# Altium footprint library charger_LT3652.PcbLib: 30 footprints (part 2 of 2)
Each footprint in its own frame and in the unit in brackets; x right, y up, seen from the top. Pads: shape width x height; smd on the part's side, far side on the other; paste and mask are expansions set on the pad; w line width, h text height; cw(c..) or ccw(c..) is an arc to the next point about the centre after c.
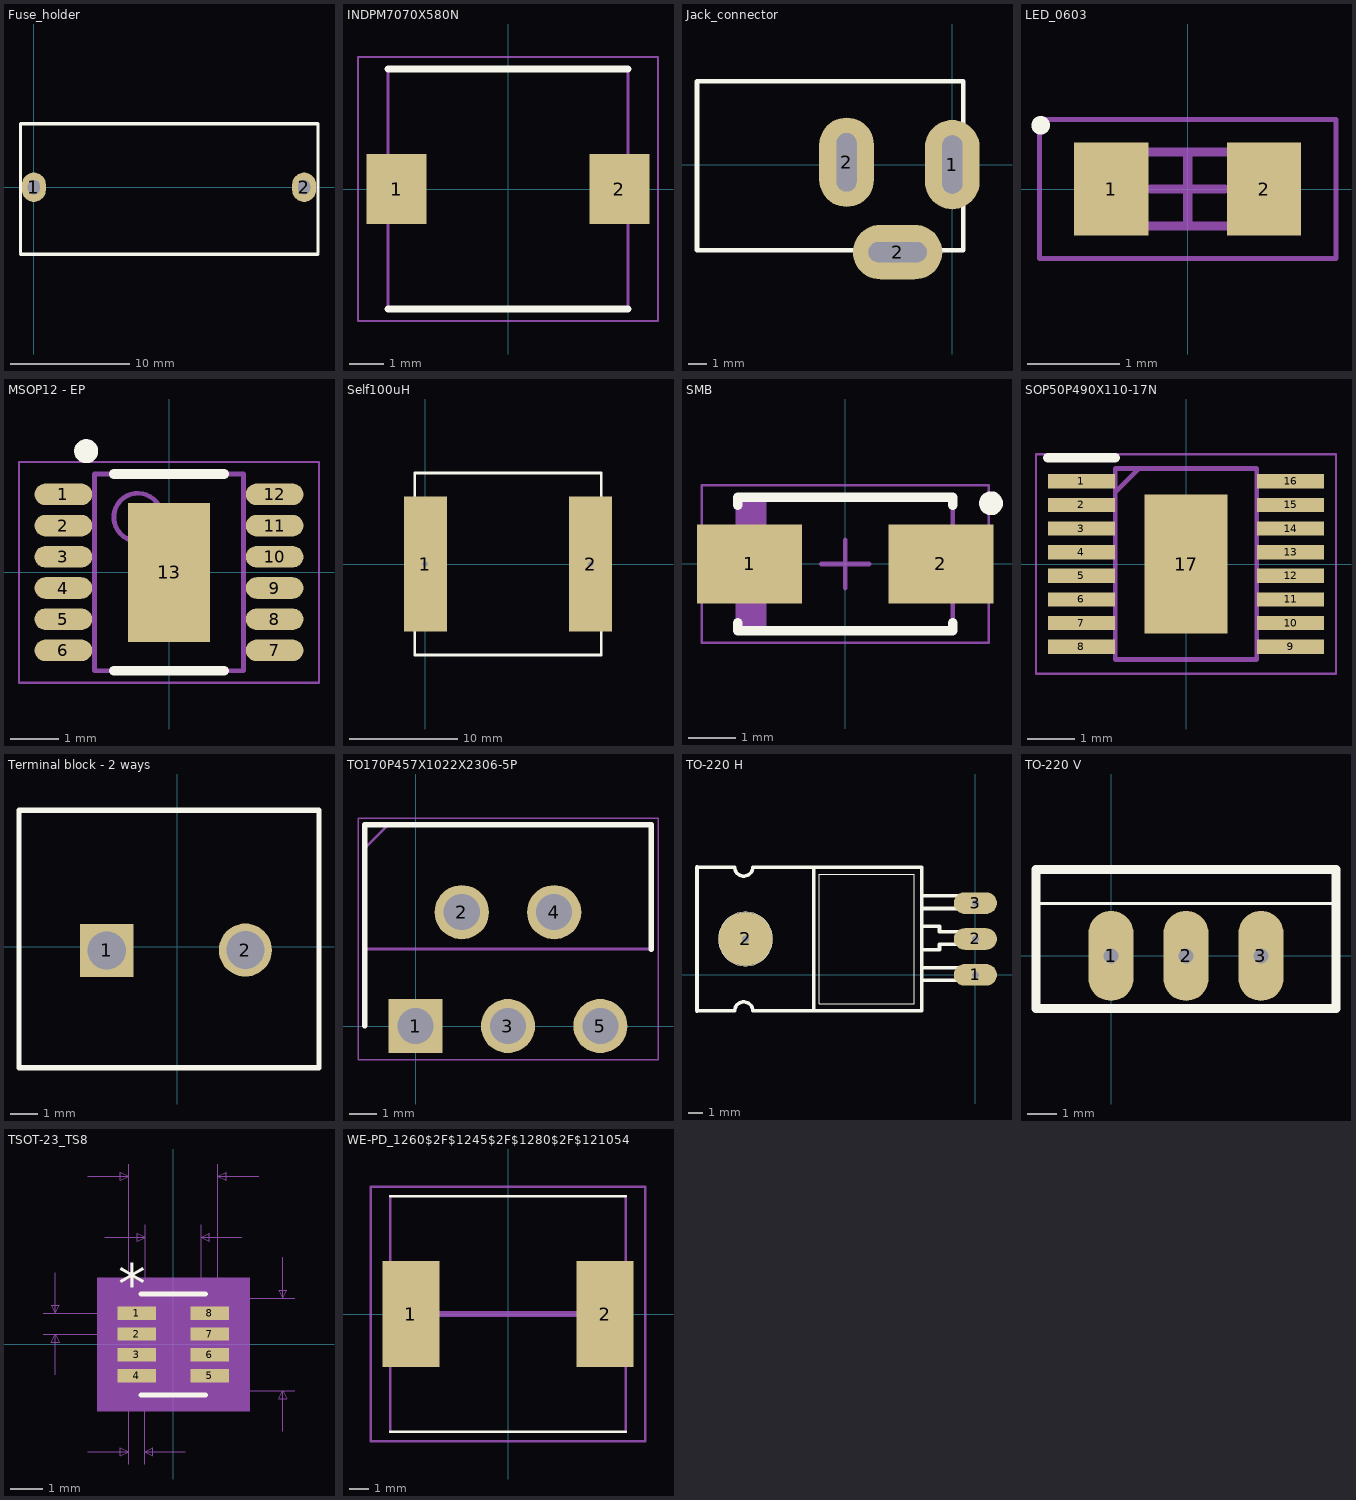
[diagram p1: the footprints below, top view; thin cyan lines are the x and y axes]

## Fuse_holder [mm]
pads (2):
  oval 2x2.5 hole 1 slot 1.2 at 90 deg: 1(0,0) 2(22.7,0)
Top Overlay:
  lines w0.254: -1.124,-5.627 23.876,-5.627 ; -1.124,-5.5 -1.124,5.334 23.876,5.334 23.876,-5.5

## INDPM7070X580N [mm]
pads (2):
  rect 1.75x2.05 smd: 1(-3.25,0) 2(3.25,0)
Top Overlay:
  lines w0.2: -3.5,-3.5 3.5,-3.5 ; -3.5,3.5 3.5,3.5
Mechanical 15:
  lines w0.1: -3.5,-3.5 3.5,-3.5 3.5,3.5 -3.5,3.5 -3.5,-3.5
Mechanical 20:
  lines w0.05: -4.375,-3.85 4.375,-3.85 4.375,3.85 -4.375,3.85 -4.375,-3.85

## Jack_connector [mm]
pads (3):
  oval 3x4.9 hole 1.1 slot 3.2 at 90 deg: 1(0,0) 2(-5.8,0.127)
  oval 4.9x3 hole 1.1 slot 3.2 at 0 deg: 2(-3,-4.8)
Top Overlay:
  lines w0.254: -14,-4.699 0.6,-4.699 0.6,4.572 -14,4.572 -14,-4.699

## LED_0603 [mm] "LED diode 0603"
pads (2):
  rect 0.8x1 smd: 1(-0.825,0) 2(0.825,0)
Top Overlay:
  circle w0.1: c-1.587,0.687 r0.05
Mechanical 13:
  lines w0.1: -0.9,-0.4 0.9,-0.4 0.9,0.4 -0.9,0.4 -0.9,-0.4
Mechanical 15:
  lines w0.05: -1.6,-0.75 1.6,-0.75 1.6,0.75 -1.6,0.75 -1.6,-0.75
  lines w0.1: -0.4,0 0.4,0 ; 0,-0.4 0,0.4
3D body "User Library-LED_0603_B.STEP": height 0.6, standoff 0, extent -0.8,-0.4 0.8,0.4

## MSOP12 - EP [mm] "MSOP, 12-Leads, Body 4,00x3,00mm, Pitch 0,65mm, Thermal Pad 2,90x1,70mm, IPC Medium Density"
height 1.1
pads (13):
  oval 1.2x0.45 smd: 1(-2.2,1.625) 2(-2.2,0.975) 3(-2.2,0.325) 4(-2.2,-0.325) 5(-2.2,-0.975) 6(-2.2,-1.625) 7(2.2,-1.625) 8(2.2,-0.975) 9(2.2,-0.325) 10(2.2,0.325) 11(2.2,0.975) 12(2.2,1.625)
  rect 1.7x2.9 smd: 13(0,0)
Top Overlay:
  circle w0.25: c-1.725,2.525 r0.125
  lines w0.2: -1.15,-2.05 1.15,-2.05 ; -1.15,2.05 1.15,2.05
Mechanical 13:
  circle w0.1: c-0.65,1.15 r0.5
  lines w0.1: -1.55,-2.05 1.55,-2.05 1.55,2.05 -1.55,2.05 -1.55,-2.05
Mechanical 15:
  lines w0.05: -3.125,-2.3 3.125,-2.3 3.125,2.3 -3.125,2.3 -3.125,-2.3
  lines w0.1: -0.5,0 0.5,0 ; 0,-0.5 0,0.5
3D body "User Library-msop-12.STEP": height 1.1, standoff 0, extent -2.45,-2.02 2.45,2.02

## Self100uH [mm] "Inductance 100uH 5,3A"
pads (2):
  rect 4x12.5 hole 0.5: 1(0,0) 2(15.35,0)
Top Overlay:
  lines w0.254: -0.975,-8.45 -0.975,8.45 16.325,8.45 16.325,-8.45 -0.975,-8.45

## SMB [mm] "SMB diode SS14"
height 2.3
pads (2):
  rect 2.2x1.65 smd: 1(-2,0) 2(2,0)
Top Overlay:
  circle w0.25: c3.048,1.27 r0.125
  lines w0.2: -2.25,-1.225 -2.25,-1.4 2.25,-1.4 2.25,-1.225 ; -2.25,1.225 -2.25,1.4 2.25,1.4 2.25,1.225
Mechanical 13:
  rectangle: -2.25,-1.395 -1.645,1.395
  lines w0.1: -2.25,-1.395 2.25,-1.395 2.25,1.395 -2.25,1.395 -2.25,-1.395
Mechanical 15:
  lines w0.05: -3,-1.65 3,-1.65 3,1.65 -3,1.65 -3,-1.65
  lines w0.1: -0.5,0 0.5,0 ; 0,-0.5 0,0.5
3D body: height 2.3, standoff 0, extent -2.25,-1.395 2.25,1.395

## SOP50P490X110-17N [mm]
pads (17):
  rect 1.425x0.3 smd: 1(-2.212,1.75) 2(-2.212,1.25) 3(-2.212,0.75) 4(-2.212,0.25) 5(-2.212,-0.25) 6(-2.212,-0.75) 7(-2.212,-1.25) 8(-2.212,-1.75) 9(2.212,-1.75) 10(2.212,-1.25) 11(2.212,-0.75) 12(2.212,-0.25) 13(2.212,0.25) 14(2.212,0.75) 15(2.212,1.25) 16(2.212,1.75)
  rect 1.753x2.947 smd: 17(0,0)
Top Overlay:
  lines w0.2: -2.925,2.25 -1.5,2.25
Mechanical 13:
  lines w0.1: -1.5,1.52 -1,2.02 ; -1.5,-2.02 1.5,-2.02 1.5,2.02 -1.5,2.02 -1.5,-2.02
Mechanical 15:
  lines w0.05: -3.175,-2.32 3.175,-2.32 3.175,2.32 -3.175,2.32 -3.175,-2.32
3D body "LTC3260EMSE#PBF.stp": height 1.1, standoff 0, extent -2.45,-2.02 2.45,2.02

## Terminal block - 2 ways [mm]
pads (2):
  rect 1.95x1.95 / inner round 1.95 / far side rect 1.95x1.95 hole 1.4: 1(-2.58,-0.13)
  round 1.95 hole 1.4: 2(2.5,-0.12)
Top Overlay:
  lines w0.2: -5.8,-4.427 -5.8,0.085 -5.8,5 5.2,5 5.2,-4.427 -2.54,-4.427 -5.8,-4.427
Mechanical 29:
  lines w0.1: -5.8,-4.4 -5.8,5 5.2,5 5.2,-4.4 -5.8,-4.4
3D body "1935161.stp": height 12.4, standoff -2.5, extent -5.59,-4.152 4.98,4.848

## TO170P457X1022X2306-5P [mm]
pads (5):
  rect 1.995x1.995 / inner round 1.995 / far side rect 1.995x1.995 hole 1.33: 1(0,0)
  round 1.995 hole 1.33: 2(1.7,4.191) 3(3.4,0) 4(5.1,4.191) 5(6.8,0)
Top Overlay:
  lines w0.2: -1.87,0 -1.87,7.404 8.67,7.404 8.67,2.832
Mechanical 15:
  lines w0.1: -1.87,6.554 -1.02,7.404 ; -1.87,2.832 8.671,2.832 8.671,7.404 -1.87,7.404 -1.87,2.832
Mechanical 20:
  lines w0.05: -2.12,-1.248 8.921,-1.248 8.921,7.654 -2.12,7.654 -2.12,-1.248

## TO-220 H [mil] "TO-220 horizontal"
height 185
pads (4):
  oval 120x60 hole 19.68: 1(0,0) 2(0,100) 3(0,200)
  round 150 hole 19.68: 2(-640,100)
Mid-Layer 1:
  lines w50: -640,100 0,100
Top Overlay:
  circle w2: c-640,100 r75
  lines w2: -435,-80 -170,-80 -170,280 -435,280 -435,-80
  lines w10: -775,-100 -670,-100 cw(c-645,-100) -620,-100 -150,-100 -150,300 -620,300 cw(c-645,300) -670,300 -775,300 ; -450,-100 -450,300 ; -150,70 -100,70 -100,85 -15,85 -15,120 -100,120 -100,135 -150,135 ; -150,185 -15,185 -15,220 -150,220 ; -145,-15 -10,-15 -10,20 -145,20
  lines w12: -775,-100 -775,300

## TO-220 V [mil] "TO-220 Vertical"
height 787.4
pads (3):
  oval 60x120 hole 19.68: 1(0,0) 2(100,0) 3(200,0)
Top Overlay:
  lines w4: -100,70 300,70
  lines w12: -100,-70 -100,70 -100,115 300,115 300,70 300,-70 -100,-70

## TSOT-23_TS8 [mm]
pads (8):
  rect 1.208x0.416 smd paste+0 mask+0: 1(-1.143,0.975) 2(-1.143,0.325) 3(-1.143,-0.325) 4(-1.143,-0.975) 5(1.143,-0.975) 6(1.143,-0.325) 7(1.143,0.325) 8(1.143,0.975)
Top Overlay:
  lines w0.152: -1.003,-1.575 1.003,-1.575 ; -1.003,1.575 1.003,1.575
  text "*" at -1.714,1.264 h1.27
Mechanical 5:
  region: 2.382,-2.083 -2.382,-2.083 -2.382,2.083 2.382,2.083
Mechanical 7:
  lines w0.025: -4.064,0.325 -1.143,0.325 ; -4.064,0.975 -1.143,0.975 ; -3.683,-0.945 -3.683,0.325 ; -3.683,2.245 -3.683,0.975 ; -2.667,-3.353 -1.397,-3.353 ; -2.667,5.258 -1.397,5.258 ; -2.146,3.353 -0.876,3.353 ; -1.397,-3.734 -1.397,0 -1.397,5.639 ; -0.889,-3.734 -0.889,0 ; -0.876,0 -0.876,3.734 ; 0,-1.448 3.797,-1.448 ; 0,1.448 3.797,1.448 ; 0.381,-3.353 -0.889,-3.353 ; 0.876,0 0.876,3.734 ; 1.397,0 1.397,5.639 ; 2.146,3.353 0.876,3.353 ; 2.667,5.258 1.397,5.258 ; 3.416,-2.718 3.416,-1.448 ; 3.416,2.718 3.416,1.448 ; -3.683,0.325 -3.81,0.071 -3.556,0.071 -3.683,0.325 ; -3.683,0.975 -3.81,1.229 -3.556,1.229 -3.683,0.975 ; -1.397,-3.353 -1.651,-3.226 -1.651,-3.48 -1.397,-3.353 ; -1.397,5.258 -1.651,5.385 -1.651,5.131 -1.397,5.258 ; -0.889,-3.353 -0.635,-3.226 -0.635,-3.48 -0.889,-3.353 ; -0.876,3.353 -1.13,3.48 -1.13,3.226 -0.876,3.353 ; 0.876,3.353 1.13,3.48 1.13,3.226 0.876,3.353 ; 1.397,5.258 1.651,5.385 1.651,5.131 1.397,5.258 ; 3.416,-1.448 3.289,-1.702 3.543,-1.702 3.416,-1.448 ; 3.416,1.448 3.289,1.702 3.543,1.702 3.416,1.448
  text "Default Padstyle: r121_42" at -7.938,-6.528 h1.27
  text "Pin One Padstyle: r121_42" at -7.938,-8.052 h1.27
  text "Alt 1 Padstyle: b152_229h76" at -8.572,-12.624 h1.27
  text "Alt 2 Padstyle: b229_152h76" at -8.572,-14.148 h1.27
  text "0.069in/1.753mm" at -2.381,3.861 h0.64
  text "0.11in/2.794mm" at -2.222,5.766 h0.64
  text "0.114in/2.896mm" at 3.924,-0.318 h0.64
  text "0.026in/0.65mm" at -8.636,0.332 h0.64
  text "0.02in/0.508mm" at -3.365,-4.496 h0.64
Mechanical 13:
  lines w0: -0.305,1.448 ccw(c0,1.448) 0.305,1.448
  lines w0.025: -1.397,-1.153 -1.397,-0.797 -0.876,-0.797 -0.876,-1.153 -1.397,-1.153 ; -1.397,-0.503 -1.397,-0.147 -0.876,-0.147 -0.876,-0.503 -1.397,-0.503 ; -1.397,0.147 -1.397,0.503 -0.876,0.503 -0.876,0.147 -1.397,0.147 ; -1.397,0.797 -1.397,1.153 -0.876,1.153 -0.876,0.797 -1.397,0.797 ; -0.876,-1.448 0.876,-1.448 0.876,1.448 -0.876,1.448 -0.876,-1.448 ; 0.876,-1.153 0.876,-0.797 1.397,-0.797 1.397,-1.153 0.876,-1.153 ; 0.876,-0.503 0.876,-0.147 1.397,-0.147 1.397,-0.503 0.876,-0.503 ; 0.876,0.147 0.876,0.503 1.397,0.503 1.397,0.147 0.876,0.147 ; 0.876,0.797 0.876,1.153 1.397,1.153 1.397,0.797 0.876,0.797
  text "*" at -0.813,0.102 h1.27
Mechanical 15:
  region: -1.13,-1.437 -2.001,-1.437 -2.001,1.437 -1.13,1.437 -1.13,1.702 1.13,1.702 1.13,1.437 2.001,1.437 2.001,-1.437 1.13,-1.437 1.13,-1.702 -1.13,-1.702
  lines w0.152: -2.001,-1.437 -2.001,1.437 -1.13,1.437 -1.13,1.702 1.13,1.702 1.13,1.437 2.001,1.437 2.001,-1.437 1.13,-1.437 1.13,-1.702 -1.13,-1.702 -1.13,-1.437 -2.001,-1.437
3D body: height 0.25, standoff 0, extent 0,0 0.254,0.254

## WE-PD_1260$2F$1245$2F$1280$2F$121054 [mm]
pads (2):
  rect 2.9x5.4 smd: 1(-4.95,0) 2(4.95,0)
Top Overlay:
  lines w0.127: -6,-6 6,-6 ; -6,6 6,6
Mechanical 15:
  lines w0.127: -6,-6 -6,6 ; 6,-6 6,6
  lines w0.305: -4.95,0 4.95,0
Mechanical 20:
  lines w0.127: -7,-6.5 -7,6.5 7,6.5 7,-6.5 -7,-6.5